# Altium schematic symbol library Ai-WB2-01S.SchLib: 1 symbol
Pins are listed as number, name and electrical type; pins without a type are passive.

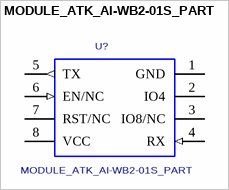
[diagram p0: symbol MODULE_ATK_AI-WB2-01S_PART]

## MODULE_ATK_AI-WB2-01S_PART
designator U?
PCB DECAL: MODULE_ATK_AI-WB2-01S_PCB
footprint MODULE_ATK_AI-WB2-01S_PCB
pins: 1 GND (power), 2 IO4, 3 IO8/NC, 4 RX (in), 5 TX (out), 6 EN/NC (in), 7 RST/NC, 8 VCC (power)